# Altium footprint library PCB - LEADLESS - BGA - EPC EPC2207.PcbLib: 1 footprints
Each footprint in its own frame and in the unit in brackets; x right, y up, seen from the top. Pads: shape width x height; smd on the part's side, far side on the other; paste and mask are expansions set on the pad; w line width, h text height; cw(c..) or ccw(c..) is an arc to the next point about the centre after c.
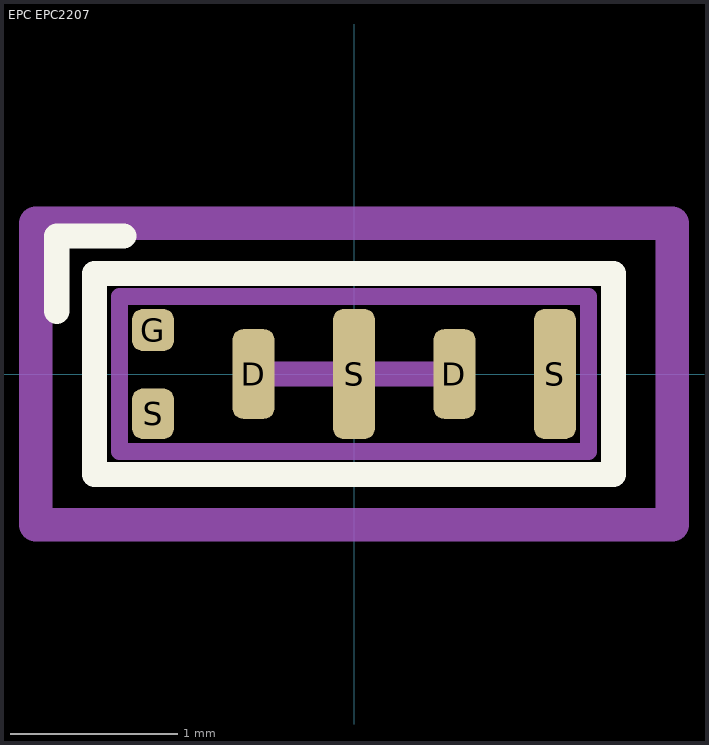
[diagram p0: the footprint, top view; thin cyan lines are the x and y axes]

## EPC EPC2207 [mm] "EPC2207 – Enhancement Mode Power Transistor"
height 0.638
pads (6):
  rrect50% 0.25x0.535 smd paste+0: D(-0.6,0) D(0.6,0)
  rrect50% 0.25x0.25 smd paste+0: G(-1.2,0.262)
  rrect50% 0.25x0.3 smd paste+0: S(-1.2,-0.238)
  rrect50% 0.25x0.775 smd paste+0: S(0,0) S(1.2,0)
Top Overlay:
  lines w0.15: -1.775,0.375 -1.775,0.825 -1.375,0.825 ; -1.55,-0.6 -1.55,0.6 1.55,0.6 1.55,-0.6 -1.55,-0.6
Top Assembly:
  lines w0.1: -1.4,-0.463 -1.4,0.463 1.4,0.463 1.4,-0.463 -1.4,-0.463
Top Courtyard (Mech15):
  lines w0.15: -0.5,0 0.5,0 ; 0,-0.25 0,0.25
  lines w0.2: -1.9,-0.9 -1.9,0.9 1.9,0.9 1.9,-0.9 -1.9,-0.9
3D body "EPC - EPC2207.step": height 0.64, standoff 0, extent -1.415,-0.477 1.415,0.477